# Altium schematic symbol library MIC5270.SchLib: 1 symbol
Pins are listed as number, name and electrical type; pins without a type are passive.

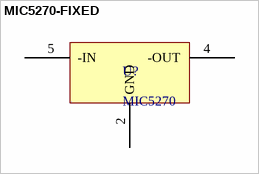
[diagram p0: symbol MIC5270-FIXED]

## MIC5270-FIXED
designator U?, comment MIC5270
LDO
pins: 2 GND (power), 4 -OUT, 5 -IN